# EAGLE library part SKY66292-11 (library Skyworks)
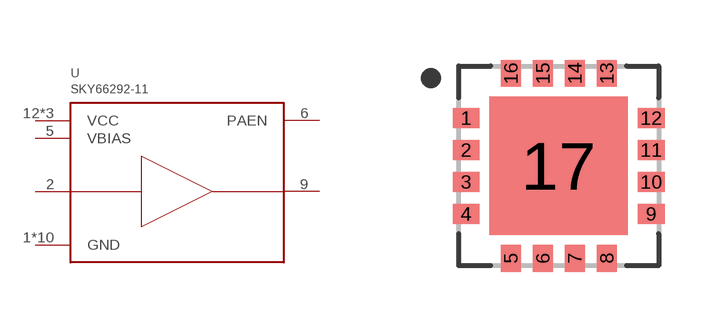
[diagram p0: symbol with the pads of SKY66292-11; footprint SKY66292-11]

Designator prefix U

## SKY66292-11  [SKY66292-11]
1  GND
2  RFIN
3  GND
4  GND
5  VBIAS
6  PAEN
7  GND
8  GND
9  RFOUT
10  GND
11  GND
12  VCC
13  GND
14  VCC
15  GND
16  VCC
17  GND

## Footprint SKY66292-11 (pad centres in mm)
smd 0.67 x 0.5: 1 -2.315,1.2; 2 -2.315,0.4; 3 -2.315,-0.4; 4 -2.315,-1.2; 9 2.315,-1.2; 10 2.315,-0.4; 11 2.315,0.4; 12 2.315,1.2
smd 0.5 x 0.67: 5 -1.2,-2.315; 6 -0.4,-2.315; 7 0.4,-2.315; 8 1.2,-2.315; 13 1.2,2.315; 14 0.4,2.315; 15 -0.4,2.315; 16 -1.2,2.315
smd 3.46 x 3.46: 17 0,0